# EAGLE library part ADXL375 (library ADXL375)
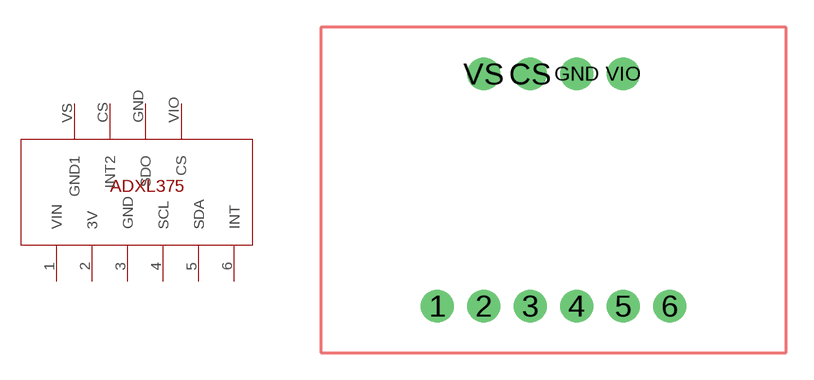
[diagram p0: symbol with the pads of ADXL375; footprint ADXL375]

Designator prefix -

## ADXL375  [ADXL375]
1  VIN
2  3V
3  GND
4  SCL
5  SDA
6  INT
CS  INT2
GND  SDO
VIO  CS
VS  GND1

## Footprint ADXL375 (pad centres in mm)
drill 1 pad 1.778: 1 6.35,2.54; 2 8.89,2.54; 3 11.43,2.54; 4 13.97,2.54; 5 16.51,2.54; 6 19.05,2.54; CS 11.43,15.24; GND 13.97,15.24; VIO 16.51,15.24; VS 8.89,15.24